# Altium footprint library THU VIEN 1.PcbLib: 29 footprints (part 2 of 2)
Each footprint in its own frame and in the unit in brackets; x right, y up, seen from the top. Pads: shape width x height; smd on the part's side, far side on the other; paste and mask are expansions set on the pad; w line width, h text height; cw(c..) or ccw(c..) is an arc to the next point about the centre after c.
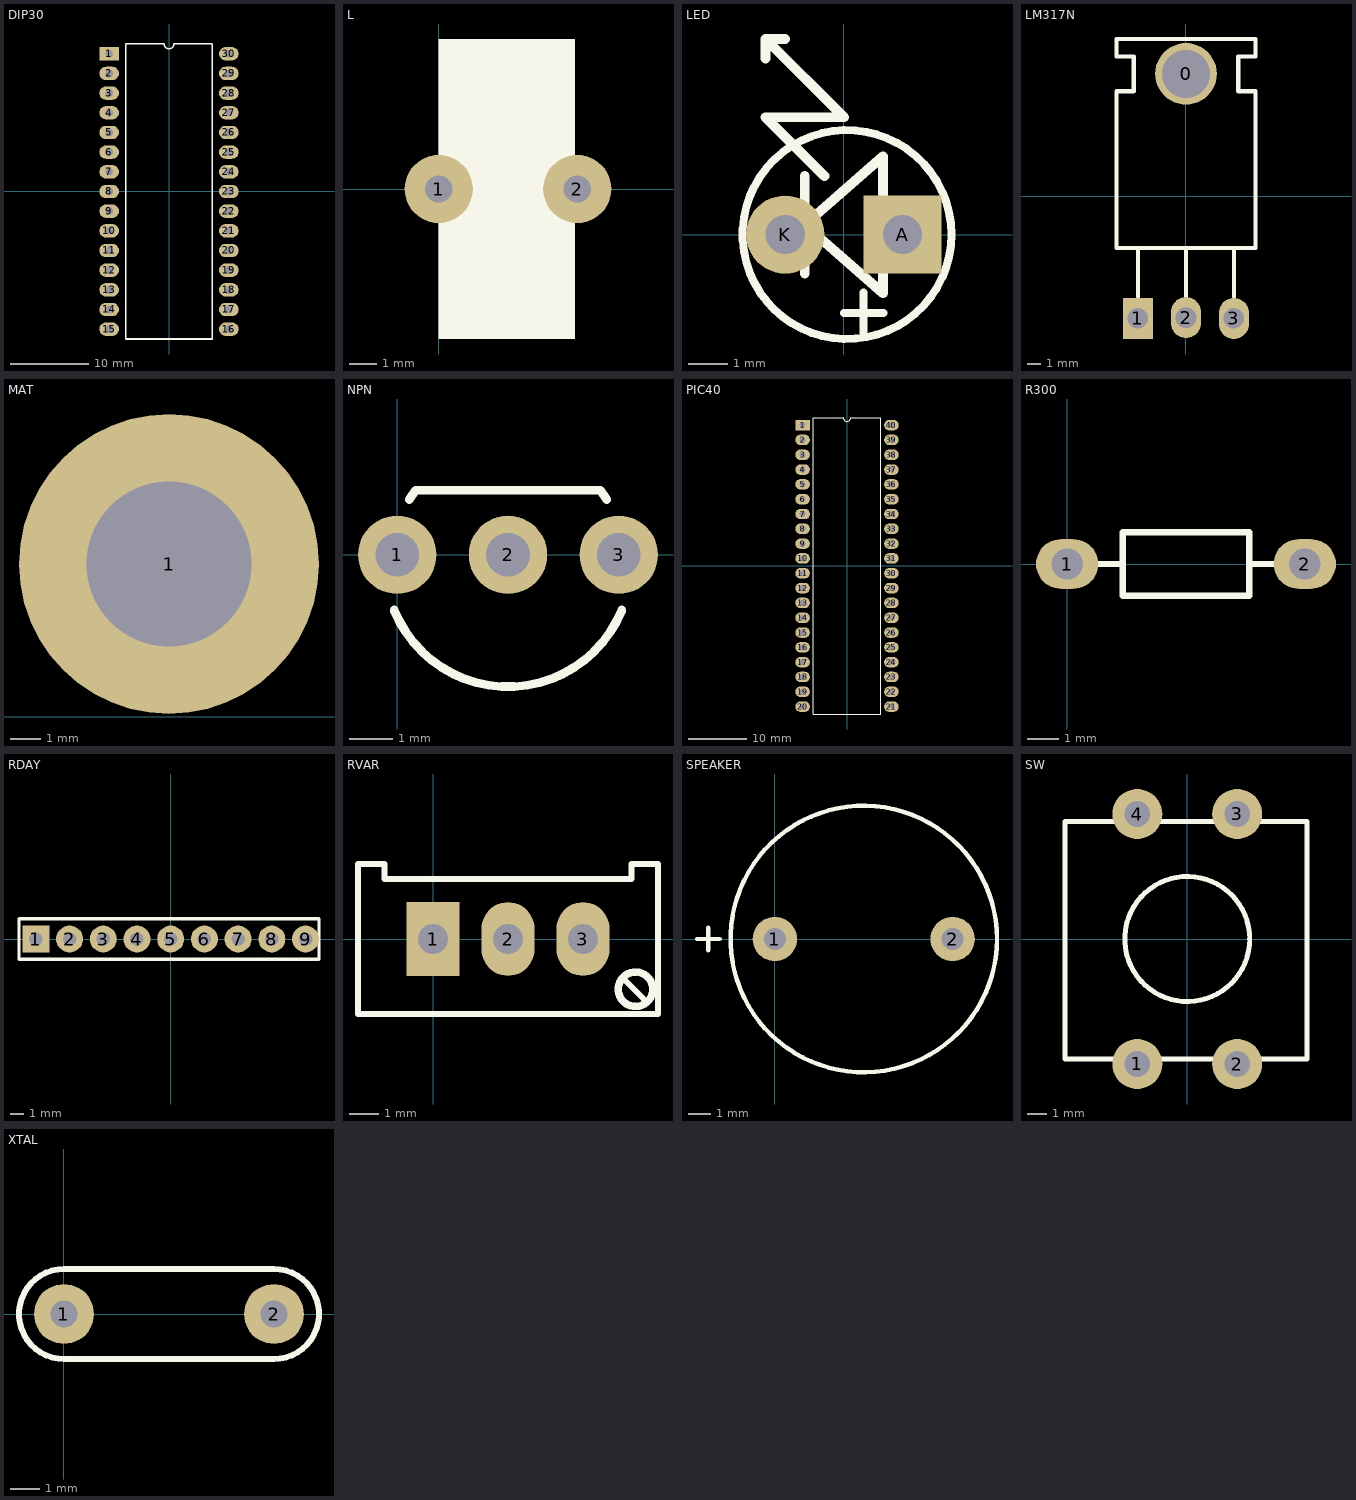
[diagram p1: the footprints below, top view; thin cyan lines are the x and y axes]

## DIP30 [mm]
pads (30):
  rect 2.5x1.7 hole 1: 1(-7.6,17.5)
  oval 2.5x1.7 hole 1: 2(-7.6,15) 3(-7.6,12.5) 4(-7.6,10) 5(-7.6,7.5) 6(-7.6,5) 7(-7.6,2.5) 8(-7.6,0) 9(-7.6,-2.5) 10(-7.6,-5) 11(-7.6,-7.5) 12(-7.6,-10) 13(-7.6,-12.5) 14(-7.6,-15) 15(-7.6,-17.5) 16(7.6,-17.5) 17(7.6,-15) 18(7.6,-12.5) 19(7.6,-10) 20(7.6,-7.5) 21(7.6,-5) 22(7.6,-2.5) 23(7.6,0) 24(7.6,2.5) 25(7.6,5) 26(7.6,7.5) 27(7.6,10) 28(7.6,12.5) 29(7.6,15) 30(7.6,17.5)
Top Overlay:
  lines w0.2: -5.515,-18.75 5.515,-18.75 5.515,18.75 0.625,18.75 cw(c0,18.75) -0.625,18.75 -5.515,18.75 -5.515,-18.75

## L [mm]
pads (2):
  round 2.5 hole 1: 1(0,0) 2(5.08,0)
Top Overlay:
  rectangle: 0,-5.5 5,5.5

## LED [mm]
pads (2):
  rect 2x2 hole 1: A(1.5,0)
  round 2 hole 1: K(-1.5,0)
Top Overlay:
  circle w0.203: c0.08,0 r2.67
  lines w0.203: 0,-2 1.016,-2 ; 0.5,-2.5 0.5,-1.484
  lines w0.254: -2,4.5 -2,5 ; -1.5,5 -2,5 ; -1,-1 -1,1.5 ; -0.5,1.5 -2,3 0,3 -2,5 ; -1,0.25 1,-1.5 1,1.5 1,2 -1,0.25

## LM317N [mm]
pads (4):
  round 4.5 hole 3.5: 0(0.008,8.923)
  rect 2.2x3 hole 1.5: 1(-3.5,-8.923)
  oval 2.2x3 hole 1.5: 2(0.008,-8.857) 3(3.5,-8.923)
Top Overlay:
  lines w0.305: -3.5,-7.333 -3.5,-3.777 ; 0.008,-7.333 0.008,-3.777 ; 3.5,-7.333 3.5,-3.777 ; -5.072,-3.777 5.088,-3.777 5.088,7.653 3.818,7.653 3.818,10.193 5.088,10.193 5.088,11.463 -5.072,11.463 -5.072,10.193 -3.802,10.193 -3.802,7.653 -5.072,7.653 -5.072,-3.777

## MAT [mm]
pads (1):
  round 10 hole 5.5: 1(9.305,5.09)

## NPN [mm]
pads (3):
  round 1.8 hole 1: 1(0,0) 2(2.54,0) 3(5.08,0)
Top Overlay:
  lines w0.2: -0.07,-1.266 ccw(c2.54,-0.212) 5.15,-1.266 ; 0.277,1.263 0.423,1.482 4.657,1.482 4.803,1.263

## PIC40 [mm]
pads (40):
  rect 2.5x1.8 hole 1: 1(-7.62,24.13)
  oval 2.5x1.8 hole 1: 2(-7.62,21.59) 3(-7.62,19.05) 4(-7.62,16.51) 5(-7.62,13.97) 6(-7.62,11.43) 7(-7.62,8.89) 8(-7.62,6.35) 9(-7.62,3.81) 10(-7.62,1.27) 11(-7.62,-1.27) 12(-7.62,-3.81) 13(-7.62,-6.35) 14(-7.62,-8.89) 15(-7.62,-11.43) 16(-7.62,-13.97) 17(-7.62,-16.51) 18(-7.62,-19.05) 19(-7.62,-21.59) 20(-7.62,-24.13) 21(7.62,-24.13) 22(7.62,-21.59) 23(7.62,-19.05) 24(7.62,-16.51) 25(7.62,-13.97) 26(7.62,-11.43) 27(7.62,-8.89) 28(7.62,-6.35) 29(7.62,-3.81) 30(7.62,-1.27) 31(7.62,1.27) 32(7.62,3.81) 33(7.62,6.35) 34(7.62,8.89) 35(7.62,11.43) 36(7.62,13.97) 37(7.62,16.51) 38(7.62,19.05) 39(7.62,21.59) 40(7.62,24.13)
Top Overlay:
  lines w0.203: -5.766,-25.4 -5.766,25.4 -0.635,25.4 ccw(c0,25.4) 0.635,25.4 5.766,25.4 5.766,-25.4 -5.766,-25.4

## R300 [mm]
pads (2):
  oval 2x1.6 hole 1: 1(0,0) 2(7.62,0)
Top Overlay:
  lines w0.203: 0.762,0 1.778,0 ; 5.842,0 6.858,0 ; 1.778,-1.016 1.778,1.016 5.842,1.016 5.842,-1.016 3.81,-1.016 1.778,-1.016

## RDAY [mm]
pads (9):
  rect 2x2 hole 1: 1(-10,0)
  round 2 hole 1: 2(-7.5,0) 3(-5,0) 4(-2.5,0) 5(0,0) 6(2.5,0) 7(5,0) 8(7.5,0) 9(10,0)
Top Overlay:
  lines w0.254: -11.25,-1.5 -11.25,1.5 11,1.5 11,-1.5 -11.25,-1.5

## RVAR [mm]
pads (3):
  rect 1.8x2.5 hole 1: 1(0,0)
  oval 1.8x2.5 hole 1: 2(2.54,0) 3(5.08,0)
Top Overlay:
  circle w0.254: c6.858,-1.702 r0.584
  lines w0.203: 6.452,-1.321 6.477,-1.321 6.477,-1.372 7.137,-2.032 ; -2.54,-2.54 2.54,-2.54 7.62,-2.54 7.62,2.54 6.731,2.54 6.731,2.032 -1.651,2.032 -1.651,2.54 -2.54,2.54 -2.54,-2.54

## SPEAKER [mm]
pads (2):
  round 2 hole 1: 1(0,0) 2(8,0)
Top Overlay:
  circle w0.2: c4,0 r6
  lines w0.2: -3.508,0 -2.492,0 ; -3,-0.508 -3,0.508

## SW [mm]
pads (4):
  round 2.54 hole 1.3: 1(-2.54,-6.35) 2(2.54,-6.35) 3(2.54,6.35) 4(-2.54,6.35)
Top Overlay:
  circle w0.254: c0,0 r3.175
  lines w0.254: -6.223,-6.096 6.096,-6.096 6.096,5.969 -6.223,5.969 -6.223,-6.096

## XTAL [mm]
pads (2):
  round 2 hole 0.9: 1(0,0) 2(7,0)
Top Overlay:
  lines w0.2: 0,-1.5 cw(c0,0) 0,1.5 7,1.5 cw(c7,0) 7,-1.5 0,-1.5